# Altium footprint library Red LED 2-2.5V 500mA.PcbLib: 2 footprints
Each footprint in its own frame and in the unit in brackets; x right, y up, seen from the top. Pads: shape width x height; smd on the part's side, far side on the other; paste and mask are expansions set on the pad; w line width, h text height; cw(c..) or ccw(c..) is an arc to the next point about the centre after c.
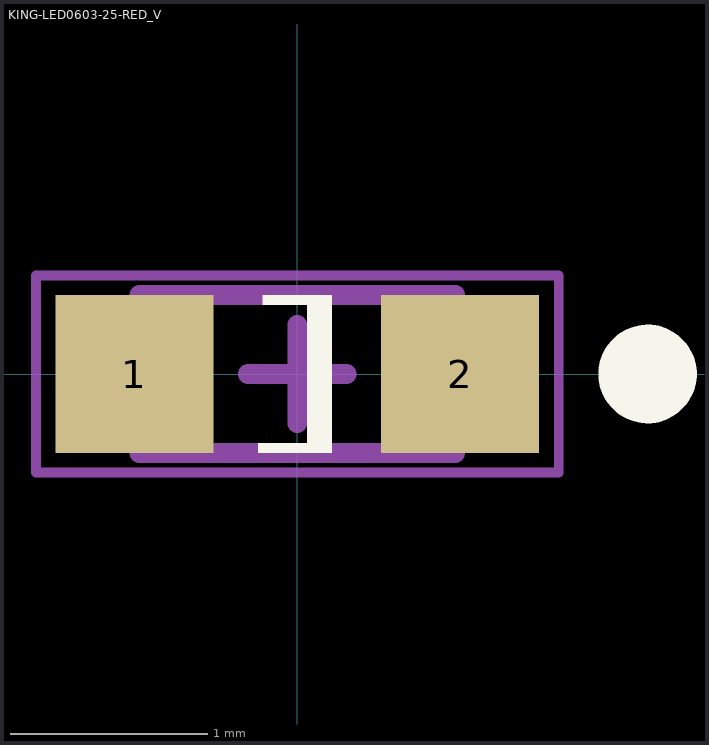
[diagram p0: the footprints below, top view; thin cyan lines are the x and y axes]

## KING-LED0603-25-RED_V [mm] "LED, SMT, Body 1.6x0.8mm, 0.28mm Thickness, Red"
height 0.28
pads (2):
  rect 0.8x0.8 smd paste+0: 1(-0.825,0) 2(0.825,0)
Top Overlay:
  circle w0.25: c1.775,0 r0.125
  rectangle: -0.175,0.35 0.175,0.4
  rectangle: 0.05,-0.4 0.175,0.4
  rectangle: -0.2,-0.4 0.175,-0.35
Mechanical 13:
  rectangle: 0.525,-0.4 0.775,0.4
  lines w0.1: -0.8,-0.4 -0.8,0.4 0.8,0.4 0.8,-0.4 -0.8,-0.4
Mechanical 15:
  lines w0.05: -1.325,-0.5 -1.325,0.5 1.325,0.5 1.325,-0.5 -1.325,-0.5
  lines w0.1: -0.25,0 0.25,0 ; 0,-0.25 0,0.25
3D body: height 0.28, standoff 0.1, extent -0.6,-0.4 0.6,0.4
3D body: height 0.2, standoff 0.15, extent -0.254,-0.254 0.254,0.254
3D body: height 0.1, standoff 0, extent -0.8,-0.4 0.8,0.4

## PCBComponent_1 [mm]